# Altium schematic symbol library SCH - DIODES - FP-GF1M-E3-67A-MFG.SchLib: 1 symbol
Pins are listed as number, name and electrical type; pins without a type are passive.

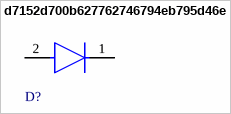
[diagram p0: symbol d7152d700b627762746794eb795d46e]

## d7152d700b627762746794eb795d46e
designator D?  (value not drawn)
footprint FP-GF1M-E3-67A-MFG
pins: 1 C, 2 A